# Altium schematic symbol library pulseox-main-SCHLib.SchLib: 23 symbols
Pins are listed as number, name and electrical type; pins without a type are passive.

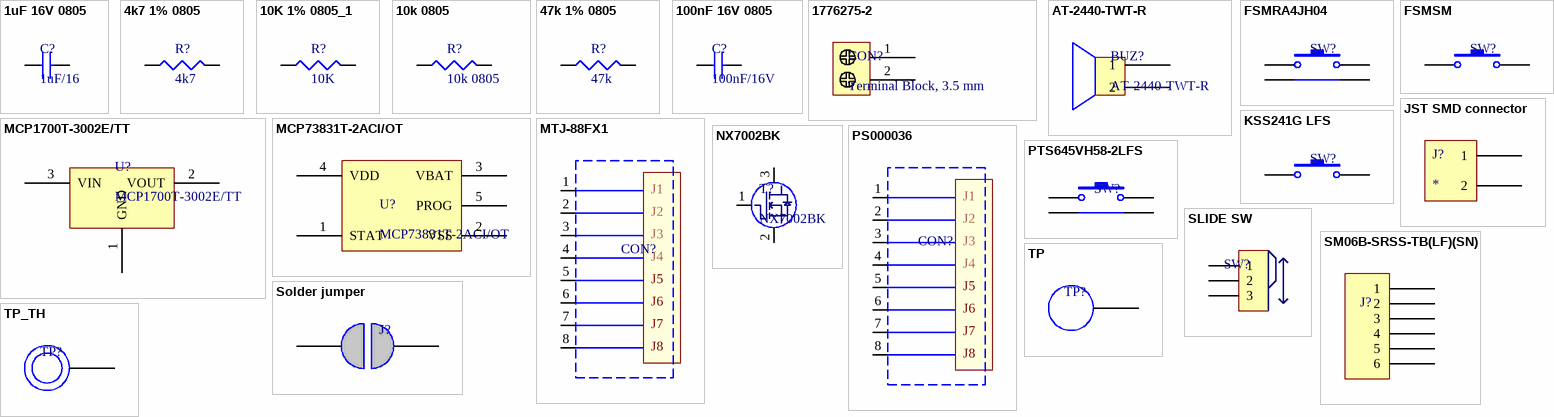
[diagram p0: symbols 1uF 16V 0805 to TP_TH]

## 1uF 16V 0805
designator C?, comment 1uF/16
MURATA - GRM21BR71C105KA01K - CAP, MLCC, X7R, 1UF, 16V, 0805; Ceramic Capacitor Case: 0805 [2012 Metric]; Capacitance: 1; Voltage Rating: 16; Capacitance Tolerance: ± 10%; Dielectric Characteristic: X7; Product Range: GRM Series; SVHC: No SVHC (20-Jun-2016; Supplier 1: Farnell; Manufacturer: MURATA; Manufacturer Part Number: GRM21BR71C105KA01K; RoHS: YES; Stock 1: 18829; Pricing 1: 10=0.0623, 100=0.0388, 500=0.0279, 2500=0.0221, 5000=0.0195, 10000=0.0162, 50000=0.0139, 100000=0.0126 (GBP); Packaging: Cut Tape; Operating Temperature Min: -55; Operating Temperature Max: 125; Automotive Qualification Standard: -; MSL: MSL 1 - Unlimited; ComponentLink1URL: http://www.farnell.com/datasheets/2189141.pdf; ComponentLink1Description: http://www.farnell.com/datasheets/2189141.pdf; Supplier Part Number 1: 2688536
footprint CAP0805
pins: 1, 2

## 4k7 1% 0805
designator R?, comment 4k7
VISHAY - CRCW08054K70FKEA - RES, THICK FILM, 4K7, 1%, 0.125W, 0805; Resistance: 4.7; Voltage Rating: 150; Resistor Case Style: 0805 [2012 Metric]; Power Rating: 125; Product Range: CRCW Series; Temperature Coefficient: ± 100; Automotive Qualification Standard: AEC-Q200; Resistor Mounting: Surface Mount Device<!--FANDB--><div class="features-and-benefits-container"><div class="features-and-benefits-description"><span class="features-benefits-value">The Vishay D/CRCW e3 series are standard thick film chip resistors. The resistance range includes E96 and E24 decade values from 1ohm to 10Mohm. CRCW e3 series resistors have a pure tin solder contacts on the Ni barrier layer that provides compatibility with reflow soldering process.</span></div><div class="features-and-benefits-list"><ul class="features-and-benefits-list-list"><li class="features-and-benefits-list-item">Automotive grade AEC-Q200 qualified</li><li class="features-and-benefits-list-item">EIA 0402, 0603, 0805, 1206, 1210, 1218, 2010, 2512 standard case sizes available</li><li class="features-and-benefits-list-item">Stability &Delta; Supplier 1: Farnell; Manufacturer: VISHAY; Manufacturer Part Number: CRCW08054K70FKEA; RoHS: Y-EX; Stock 1: 3035; Pricing 1: 10=0.0557, 100=0.0223, 500=0.0187, 1000=0.0086, 2500=0.0064 (GBP); Resistance Tolerance: ± 1%; Packaging: Cut Tape; Resistor Element Material: Thick Film; MSL: MSL 1 - Unlimited; ComponentLink1URL: http://www.vishay.com/docs/20014/smdpack.pdf; ComponentLink1Description: http://www.vishay.com/docs/20014/smdpack.pdf; ComponentLink2URL: http://www.farnell.com/datasheets/2310790.pdf; ComponentLink2Description: http://www.farnell.com/datasheets/2310790.pdf; ComponentLink3URL: http://www.farnell.com/cad/1552998.zip; ComponentLink3Description: http://www.farnell.com/cad/1552998.zip; Supplier Part Number 1: 1469923
footprint Block Terminal 3.5mm
pins: 1, 2

## 10K 1% 0805_1
designator R?, comment 10K
WALSIN - WR08X1002FTL - RES, THICK FILM, 10K, 1%, 150V, 0805; Resistance: 10; Voltage Rating: 150; Resistor Case Style: 0805 [2012 Metric]; Power Rating: 125; Product Range: WR08 Series; Temperature Coefficient: ± 100; Supplier 1: Farnell; Manufacturer: WALSIN; Manufacturer Part Number: WR08X1002FTL; RoHS: YES; Stock 1: 45511; Pricing 1: 10=0.0208, 100=0.0069, 500=0.0042, 1000=0.003, 2500=0.0023 (GBP); Resistance Tolerance: ± 1%; Packaging: Cut Tape; Resistor Element Material: Thick Film; Automotive Qualification Standard: -; MSL: MSL 2 - 1 year<!--FANDB--><div class="features-and-benefits-container"><div class="features-and-benefits-description"><span class="features-benefits-value">The WR08 series resistors from Walsin are thick film general purpose chip resistors. These resistors are constructed in a high grade ceramic body (aluminium oxide).</span></div><div class="features-and-benefits-list"><ul class="features-and-benefits-list-list"><li class="features-and-benefits-list-item">Resistance range includes E24 and E96 decade values from 1ohm to 10Mohm</li><li class="features-and-benefits-list-item">EIA 0805 case size</li><li class="features-and-benefits-list-item">Available in ?±100ppm/°C and -200ppm/°C to +400ppm/°C TCR values</li><li class="features-and-benefits-list-item">Available in ±1% and ±5% tolerance</li><li class="features-and-benefits-list-item">High reliability and stability</li><li class="features-and-benefits-list-item">Higher component and equipment reliability</li><li class="features-and-benefits-list-item">Lower assembly costs</li><li class="features-and-benefits-list-item">Continuous working voltage is 150V and rated power is 125; ComponentLink1URL: http://www.farnell.com/datasheets/1960319.pdf; ComponentLink1Description: http://www.farnell.com/datasheets/1960319.pdf; Supplier Part Number 1: 2502671
footprint RES0805
pins: 1, 2

## 10k 0805
designator R?
MULTICOMP         MCWR08X1002FTL            Surface Mount Chip Resistor, Thick Film, MCWR Series, 10 kohm, 125 mW,  1%, 150 V; Resistance: 10kR; Power Rating: 125mW; Voltage Rating: 150V; Temperature Coefficient: 100ppm/°C; Supplier 1: Farnell; Manufacturer: Multicomp; Manufacturer Part Number: MCWR08X1002FTL; Stock 1: 2925000; Pricing 1: 5000=0.0013, 25000=0.0011 (EUR); Mount: Surface Mount; Case/Package: 0805; Case Code (Metric): 2012; Case Code (Imperial): 0805; Tolerance: 1%; Packaging: Cut Tape; Composition: Thick Film; Voltage Rating (DC): 150V; REACH SVHC: Unknown; ComponentLink1URL: https://datasheet.ciiva.com/46381/1849611-46381605.pdf; ComponentLink1Description: https://datasheet.ciiva.com/46381/1849611-46381605.pdf; Supplier Part Number 1: 2446870
footprint RES0805
pins: 1, 2

## 47k 1% 0805
designator R?, comment 47k
WELWYN - WCR0805-47KFI - RES, THICK FILM, 47K, 1%, 0.125W, 0805; Resistance: 47; Voltage Rating: 150; Resistor Case Style: 0805 [2012 Metric]; Power Rating: 125; Product Range: WCR Series; Temperature Coefficient: ± 100; Automotive Qualification Standard: AEC-Q200; SVHC: No SVHC (15-Jun-2015); External Depth: 0.55; External Length / Height: 2; External Width: 1.25; Insulation Resistance: 1000; Proof Voltage: 500; Reel Quantity: 5000; Resistor Mounting: Surface Mount Device; Supplier 1: Farnell; Manufacturer: WELWYN; Manufacturer Part Number: WCR0805-47KFI; RoHS: YES; Stock 1: 26620; Pricing 1: 10=0.0208, 100=0.0156, 500=0.0115, 1000=0.01, 2500=0.0088 (GBP); Resistance Tolerance: ± 1%; Packaging: Cut Tape; Resistor Element Material: Thick Film; No. of Pins: 2; Operating Temperature Max: 155; Operating Temperature Min: -55; Operating Temperature Range: -55°C to +155; Tape Width: 8; ComponentLink1URL: http://www.farnell.com/datasheets/2331353.pdf; ComponentLink1Description: http://www.farnell.com/datasheets/2331353.pdf; Supplier Part Number 1: 1099812
footprint RES0805
pins: 1, 2

## 100nF 16V 0805
designator C?, comment 100nF/16V
MURATA - GRM219R71C104KA01D - CAP, MLCC, X7R, 0.1UF, 16V, 0805; Ceramic Capacitor Case: 0805 [2012 Metric]; Capacitance: 0.1; Voltage Rating: 16; Capacitance Tolerance: ± 10%; Dielectric Characteristic: X7; Product Range: GRM Series; SVHC: No SVHC (17-Dec-2015; Supplier 1: Farnell; Manufacturer: MURATA; Manufacturer Part Number: GRM219R71C104KA01D; RoHS: YES; Stock 1: 4286; Pricing 1: 10=0.0517, 100=0.0335, 500=0.0221, 1000=0.02, 2000=0.0175, 4000=0.0134, 20000=0.0095, 40000=0.0081 (GBP); Packaging: Cut Tape; Operating Temperature Min: -55; Operating Temperature Max: 125; Automotive Qualification Standard: -; MSL: MSL 1 - Unlimited; ComponentLink1URL: http://www.farnell.com/datasheets/2079178.pdf; ComponentLink1Description: http://www.farnell.com/datasheets/2079178.pdf; ComponentLink2URL: http://www.farnell.com/datasheets/1935878.pdf; ComponentLink2Description: http://www.farnell.com/datasheets/1935878.pdf; Supplier Part Number 1: 2611934
footprint CAP0805
pins: 1, 2

## 1776275-2
designator CON?, comment Terminal Block, 3.5 mm
TE CONNECTIVITY - 1776275-2 - TERMINAL BLOCK, WIRE TO BRD, 2POS, 18AWG; Pitch Spacing: 3.5; No. of Positions: 2; Wire Size AWG Min: 26; Wire Size AWG Max: 18; Conductor Area CSA: 0.9; Wire Connection Method: Screw; Rated Current: 7; Rated Voltage: 250; Block Orientation: Through Hole Right Angle; SVHC: No SVHC (15-Jun-2015); Approval Bodies: CSA, UL; Connector Mounting: PCB Mount; Connector Type: Terminal Block, PCB; Contact Current Rating: 10; Wire Area Size Max: 2.08mm²<!--FANDB--><div class="features-and-benefits-container"><div class="features-and-benefits-description"><span class="features-benefits-value">The 1776275-2 from TE Connectivity is a through hole, 2 position vertical PCB mount terminal block with interlocking. This terminal block comes with 3.5mm pitch spacing and is suitable for wire size ranging from 26AWG to 18; Supplier 1: Farnell; Manufacturer: TE CONNECTIVITY; Manufacturer Part Number: 1776275-2; RoHS: Y-EX; Stock 1: 22978; Pricing 1: 1=0.198, 50=0.148, 150=0.141, 250=0.135, 500=0.128, 1500=0.123 (GBP); Product Range: -; Colour: Blue; Contact Material: Brass; Contact Plating: Tin Plated Contacts; Lead Spacing: 3.5; Voltage Rating VAC: 250; ComponentLink1URL: http://www.farnell.com/datasheets/1899918.pdf; ComponentLink1Description: http://www.farnell.com/datasheets/1899918.pdf; ComponentLink2URL: http://www.farnell.com/cad/2291290.pdf; ComponentLink2Description: http://www.farnell.com/cad/2291290.pdf; ComponentLink3URL: http://www.farnell.com/datasheets/1650926.pdf; ComponentLink3Description: http://www.farnell.com/datasheets/1650926.pdf; ComponentLink4URL: http://www.farnell.com/datasheets/2159487.pdf; ComponentLink4Description: http://www.farnell.com/datasheets/2159487.pdf; Supplier Part Number 1: 1098611
footprint Block Terminal 3.5mm
pins: 1 (oc), 2 (oc)

## AT-2440-TWT-R
designator BUZ?
AUDIO PIEZO TRANSDUCER 1-30V TH; Manufacturer: PUI Audio, Inc.; Driver Circuitry: Transducer, Externally Driven; Input Type: Peak-Peak Signal; Voltage - Rated: 3V; Voltage Range: 1 ~ 30V; Frequency: 4kHz; Operating Mode: Single Tone; Sound Pressure Level (SPL): 80dB @ 3V, 10cm; Current - Supply: 1mA; Port Location: Top; Ratings: Washable; Supplier 1: Digi-Key; Manufacturer Part Number: AT-2440-TWT-R; RoHS: RoHS Compliant; Category: Audio Products; Stock 1: 3028; Pricing 1: 1=1.87, 10=1.7, 100=1.36, 500=1.1288, 1000=0.986, 5000=0.884 (USD); Packaging: Tray; Part Status: Active; Technology: Piezo; Duration: -; Operating Temperature: -20°C ~ 60°C; Approvals: -; Mounting Type: Through Hole; Termination: PC Pins; Size / Dimension: 0.945" Dia (24.00mm); Height - Seated (Max): 0.303" (7.70mm); ComponentLink1URL: http://www.puiaudio.com/pdf/AT-2440-TWT-R.pdf; ComponentLink1Description: http://www.puiaudio.com/pdf/AT-2440-TWT-R.pdf; Supplier Part Number 1: 668-1103-ND
footprint Buzzer
pins: 1 (oc), 2 (oc)

## FSMRA4JH04
designator SW?  (value not drawn)
TE CONNECTIVITY         FSMRA4JH04             Tactile Switch, Non Illuminated, 1.57 N, 24 V, 50 mA, Solder, FSMRAJ Series; Mechanical Life: 100000Cycles; Voltage Rating (DC): 24V; Operating Force: 1.6N; Current Rating: 50mA; Throw Configuration: SPST; Actuator Length: 5.74mm; Supplier 1: Farnell; Manufacturer: TE Connectivity; Manufacturer Part Number: FSMRA4JH04; Stock 1: 19101; Pricing 1: 1=0.15, 500=0.142, 1000=0.117, 5000=0.115, 10000=0.112 (EUR); Mount: Through Hole,PCB; Contact Material: Copper Alloy; Min Operating Temperature: -35°C; Max Operating Temperature: 85°C; Package Quantity: 1000; Packaging: Bulk; Termination: Solder; Voltage Rating: 24V; Illumination Type: Illuminated; Contact Current Rating: 50mA; Length: 7.11mm; Width: 7.01mm; REACH SVHC: Unknown; ComponentLink1URL: https://datasheet.ciiva.com/5809/606398-5809313.pdf; ComponentLink1Description: https://datasheet.ciiva.com/5809/606398-5809313.pdf; ComponentLink2URL: https://datasheet.ciiva.com/7635/606398-7635446.pdf; ComponentLink2Description: https://datasheet.ciiva.com/7635/606398-7635446.pdf; Supplier Part Number 1: 1813692
footprint SW TH ANGLE_1
pins: 1, 2, 3 (oc), 4 (oc)

## FSMSM
designator SW?  (value not drawn)
TE CONNECTIVITY / ALCOSWITCH - FSMSM - SWITCH, SPST, 0.05A, 24VDC, SMD; Illumination: Non Illuminated; Contact Voltage DC Nom: 24; Contact Current Max: 50; Operating Force: 180; Product Range: FSMSM Series; Actuation Type: Raised; Contact Configuration: SPST<!--FANDB--><div class="features-and-benefits-container"><div class="features-and-benefits-description"><span class="features-benefits-value">The FSMSM is a single-pole single-throw 4.5; Supplier 1: Farnell; Manufacturer: TE CONNECTIVITY / ALCOSWITCH; Manufacturer Part Number: FSMSM; RoHS: YES; Stock 1: 14353; Pricing 1: 1=0.157, 75=0.148, 150=0.144, 250=0.139, 500=0.102, 1500=0.1, 2500=0.0979, 5000=0.0959 (GBP); Switch Terminals: -; ComponentLink1URL: http://www.farnell.com/datasheets/1845752.pdf; ComponentLink1Description: http://www.farnell.com/datasheets/1845752.pdf; ComponentLink2URL: http://www.farnell.com/cad/1885096.pdf; ComponentLink2Description: http://www.farnell.com/cad/1885096.pdf; ComponentLink3URL: http://www.farnell.com/datasheets/1754085.pdf; ComponentLink3Description: http://www.farnell.com/datasheets/1754085.pdf; Supplier Part Number 1: 1703878
footprint FSMSM SMD SW
pins: 1, 2

## JST SMD connector
designator J?  (no BOM)
footprint JST SMD connector
pins: 1 (oc), 2 (oc)

## KSS241G LFS
designator SW?  (value not drawn)
C & K COMPONENTS - KSS241G LFS - SWITCH, SPST, SMD, 4N, 0.05A, 32VDC; Illumination: Non Illuminated; Contact Voltage DC Nom: 32; Contact Current Max: 50; Operating Force: 4; Switch Terminals: Solder; SVHC: No SVHC (17-Dec-2015); Actuation Type: Side; Contact Configuration: SPST-NO<!--FANDB--><div class="features-and-benefits-container"><div class="features-and-benefits-description"><span class="features-benefits-value">The KSS241GLFS is a subminiature SMD Tactile Switch with momentary action and SPST-NO contact arrangement. The silver-plated gull-wing terminations.</span></div><div class="features-and-benefits-list"><ul class="features-and-benefits-list-list"><li class="features-and-benefits-list-item">Side actuated</li><li class="features-and-benefits-list-item">Low profile of 1.7mm</li><li class="features-and-benefits-list-item">Excellent tactile feel</li><li class="features-and-benefits-list-item">IP40 Protection rating</li><li class="features-and-benefits-list-item">Large flat top</li><li class="features-and-benefits-list-item">-40 to 85; Supplier 1: Farnell; Manufacturer: C & K COMPONENTS; Manufacturer Part Number: KSS241G LFS; RoHS: YES; Stock 1: 5476; Pricing 1: 1=0.469, 75=0.451, 150=0.266, 250=0.26, 500=0.254, 1500=0.248, 2500=0.242, 5000=0.236 (GBP); Product Range: -; ComponentLink1URL: http://www.farnell.com/datasheets/1792624.pdf; ComponentLink1Description: http://www.farnell.com/datasheets/1792624.pdf; Supplier Part Number 1: 1437640
footprint KSS241G_switch (KSS241G SMT Side Actuated Switch)
pins: 1, 2

## MCP1700T-3002E/TT
designator U?
MICROCHIP - MCP1700T-3002E/TT - IC, LDO REGULATOR, 0.25A, 6V, SOT23-3; Supplier 1: Farnell; Manufacturer: MICROCHIP; Manufacturer Part Number: MCP1700T-3002E/TT; RoHS: YES; Stock 1: 35318; Pricing 1: 1=0.323, 10=0.296, 25=0.272, 50=0.247, 100=0.224 (GBP); ComponentLink1URL: http://www.farnell.com/datasheets/1784514.pdf; ComponentLink1Description: http://www.farnell.com/datasheets/1784514.pdf; ComponentLink2URL: http://www.farnell.com/cad/1545350.zip; ComponentLink2Description: http://www.farnell.com/cad/1545350.zip; ComponentLink3URL: http://www.farnell.com/datasheets/2289014.pdf; ComponentLink3Description: http://www.farnell.com/datasheets/2289014.pdf; Supplier Part Number 1: 1331482
footprint SOT23127P600-8N - duplicate
pins: 1 GND (oc), 2 VOUT (oc), 3 VIN (oc)

## MCP73831T-2ACI/OT
designator U?
MICROCHIP - MCP73831T-2ACI/OT - LI-ION/LI-POLY CHARGE CONTROLLER; Supplier 1: Farnell; Manufacturer: MICROCHIP; Manufacturer Part Number: MCP73831T-2ACI/OT; RoHS: YES; Stock 1: 39052; Pricing 1: 1=0.476, 10=0.407, 25=0.385, 50=0.361, 100=0.336 (GBP); ComponentLink1URL: http://www.farnell.com/datasheets/2124927.pdf; ComponentLink1Description: http://www.farnell.com/datasheets/2124927.pdf; ComponentLink2URL: http://www.farnell.com/cad/1545964.zip; ComponentLink2Description: http://www.farnell.com/cad/1545964.zip; Supplier Part Number 1: 1332158
footprint SOT23127P600-8N
pins: 1 STAT (oc), 2 VSS (oc), 3 VBAT (oc), 4 VDD (oc), 5 PROG (oc)

## MTJ-88FX1
designator CON?  (value not drawn)
MULTICOMP   MTJ-88FX1   CAT5/CAT5E RJ45 MODULAR JACK 8 POSITION 1 PORT; Number of Contacts: 8; Number of Ports: 1; Gender: Male; Supplier 1: Farnell; Manufacturer: Multicomp; Manufacturer Part Number: MTJ-88FX1; Stock 1: 0; Pricing 1: 1=0.48, 250=0.362, 500=0.324, 1000=0.29, 5000=0.264 (GBP); Mount: Through Hole; Contact Plating: Gold; Contact Material: Bronze; Termination: Through Hole; Connector Type: RJ45; REACH SVHC: Unknown; ComponentLink1URL: https://datasheet.ciiva.com/7629/1647955-7629275.pdf; ComponentLink1Description: https://datasheet.ciiva.com/7629/1647955-7629275.pdf; Supplier Part Number 1: 1626746
footprint eth con
pins: 1, 2, 3, 4, 5, 6, 7, 8
text: J1; J2; J3; J4; J5; J6; J7; J8

## NX7002BK
designator T?
NEXPERIA - NX7002BK - MOSFET, N-CH, 60V, 0.27A, SOT-23-3; Transistor Polarity: N Channel; Continuous Drain Current Id: 270; Drain Source Voltage Vds: 60; On Resistance Rds(on): 2.2; Rds(on) Test Voltage Vgs: 10; Threshold Voltage Vgs: 1.6; Power Dissipation Pd: 310; Transistor Case Style: SOT-23; No. of Pins: 3; SVHC: No SVHC (17-Dec-2015; Supplier 1: Farnell; Manufacturer: NEXPERIA; Manufacturer Part Number: NX7002BK; RoHS: YES; Stock 1: 2195; Pricing 1: 1=0.0468, 25=0.0379, 100=0.0268, 250=0.0233, 500=0.0212, 1000=0.0189 (GBP); Operating Temperature Max: 150; Product Range: -; Automotive Qualification Standard: -; MSL: MSL 1 - Unlimited; ComponentLink1URL: http://www.farnell.com/datasheets/1970559.pdf; ComponentLink1Description: http://www.farnell.com/datasheets/1970559.pdf; Supplier Part Number 1: 2469640
footprint SOT23
pins: 1 G, 2 S, 3 D

## PS000036
designator CON?  (value not drawn)
Manufacturer: Pro Signal; Manufacturer Part Number: PS000036; Supplier 1: Farnell; Stock 1: 0; Supplier Part Number 1: 2787075
footprint eth con
pins: 1, 2, 3, 4, 5, 6, 7, 8
text: J1; J2; J3; J4; J5; J6; J7; J8

## PTS645VH58-2LFS
designator SW?  (value not drawn)
SWITCH TACTILE SPST-NO 0.05A 12V; Manufacturer: ITT C&K; Manufacturer Part Number: PTS645VH58-2LFS; Mechanical Life: 100000Cycles; Actuator Material: Nylon,Polyamide; Operating Force: 200gf; Throw Configuration: SPST; Max Current Rating: 50mA; Illumination Type: Non-Illuminated,Illuminated; Switch Function: Off-Mom; Supplier 1: Farnell; Stock 1: 7080; Pricing 1: 1=0.189, 10=0.175, 50=0.165, 100=0.141, 300=0.135, 700=0.107, 2000=0.105, 7000=0.103 (GBP); Mount: Through Hole; Contact Plating: Silver; Colour: Black; Contact Material: Brass,Silver; Min Operating Temperature: -20°C; Max Operating Temperature: 60°C; Package Quantity: 1000; Packaging: Bulk; Current Rating: 50mA; Voltage Rating (DC): 12V; Termination: PC Pins; Orientation: Right Angle; Length: 8.5mm; Depth: 9.8mm; REACH SVHC: No SVHC; Lead Free: Lead Free; ComponentLink1URL: https://datasheet.ciiva.com/29903/getdatasheetpartid-780336-29903805.pdf; ComponentLink1Description: https://datasheet.ciiva.com/29903/getdatasheetpartid-780336-29903805.pdf; ComponentLink2URL: https://datasheet.ciiva.com/22637/1707731-22637360.pdf; ComponentLink2Description: https://datasheet.ciiva.com/22637/1707731-22637360.pdf; Supplier Part Number 1: 2320088
footprint SW TH ANGLE_2
pins: 1, 2, 3 (oc), 4 (oc)

## SLIDE SW
designator SW?  (value not drawn)
C & K COMPONENTS - OS102011MA1QS1 - SWITCH SLIDE SHORTING SPDT; Switch Operation: On-On; Switch Mounting: Through Hole; Contact Current Max: 100; Contact Voltage DC Max: 12; SVHC: No SVHC (20-Jun-2016)<!--FANDB--><div class="features-and-benefits-container"><div class="features-and-benefits-description"><span class="features-benefits-value">The OS102011MA1QS1 is a Miniature Slide Switch features a new high-temperature option for lead-free soldering. Designed with a variety of actuators and terminations, the miniature slide switches are ideal for thermostat applications, as well as test and measurement equipment, computer peripherals and consumer products.</span></div><div class="features-and-benefits-list"><ul class="features-and-benefits-list-list"><li class="features-and-benefits-list-item">SPDT Contact Configuration</li><li class="features-and-benefits-list-item">Variety of Actuators and Terminations</li><li class="features-and-benefits-list-item">PC and Panel Mounting</li><li class="features-and-benefits-list-item">Silver Contact Plating</li><li class="features-and-benefits-list-item">Shorting Contacts</li><li class="features-and-benefits-list-item">Halogen-free Material</li></ul></div><div class="features-and-benefits-applications"><ul class="features-and-benefits-value"><li class="features-and-benefits-list-item">Test & Measurement</li><li class="features-and-benefits-list-item">Computers & Computer Peripherals</li><li class="features-and-benefits-list-item">Communications & Networking</li><li class="features-and-benefits-list-item">Consumer Electronics</li></ul></div></div>; Supplier 1: Farnell; Manufacturer: C & K COMPONENTS; Manufacturer Part Number: OS102011MA1QS1; RoHS: YES; Stock 1: 1781; Pricing 1: 1=0.3, 75=0.251, 150=0.244, 250=0.2, 500=0.196, 1500=0.192, 2500=0.188, 5000=0.184 (GBP); Contact Configuration: SPDT; Product Range: -; Contact Voltage AC Max: -; Orientation: Right Angle; ComponentLink1URL: http://www.farnell.com/datasheets/1839844.pdf; ComponentLink1Description: http://www.farnell.com/datasheets/1839844.pdf; Supplier Part Number 1: 2435103
footprint SLIDE_SW
pins: 1 (oc), 2 (oc), 3 (oc)

## SM06B-SRSS-TB(LF)(SN)
designator J?  (value not drawn)
JST (JAPAN SOLDERLESS TERMINALS) - SM06B-SRSS-TB(LF)(SN) - CONNECTOR, HEADER, SMT, R/A, 1MM, 6WAY; Pitch Spacing: 1; No. of Contacts: 6; Product Range: SR Series; Contact Termination Type: Surface Mount; SVHC: No SVHC (17-Dec-2015); Contact Resistance: 20; Contact Termination: Surface Mount Right Angle; Insulation Resistance: 100; Voltage Rating V AC: 50; Withstand Voltage: 500V<!--FANDB--><div class="features-and-benefits-container"><div class="features-and-benefits-description"><span class="features-benefits-value">The SR series side entry, surface mount shrouded header from JST are 1mm pitch, single row wire to board disconnect insulation displacement connectors. This shrouded header has locking features for its mating receptacle and there are no holes in the header shroud that would adversely effect vacuum gripping equipment. The insulation displacement section connected to each wire consists of two tin-plated slots which ensures reliable connection. SR series shrouded headers are compatible with SH crimp style connector.</span></div><div class="features-and-benefits-list"><ul class="features-and-benefits-list-list"><li class="features-and-benefits-list-item">Current rating of 700mA</li><li class="features-and-benefits-list-item">Voltage rating of 50VAC/DC</li><li class="features-and-benefits-list-item">Temperature range from -25°C to 85°C</li><li class="features-and-benefits-list-item">Wire size of 30AWG</li><li class="features-and-benefits-list-item">Number of contacts varies from 2 to 14 pins</li><li class="features-and-benefits-list-item">Contact material is copper alloy</li><li class="features-and-benefits-list-item">Tin plated contact</li><li class="features-and-benefits-list-item">UL and CSA certified</li></ul></div><div class="features-and-benefits-applications"><ul class="features-and-benefits-value"><li class="features-and-benefits-list-item">Industrial</li></ul></div></div>; Supplier 1: Farnell; Manufacturer: JST (JAPAN SOLDERLESS TERMINALS); Manufacturer Part Number: SM06B-SRSS-TB(LF)(SN); RoHS: YES; Stock 1: 16619; Pricing 1: 10=0.607, 50=0.465, 150=0.421, 250=0.378, 500=0.334, 1500=0.305, 2500=0.276, 5000=0.245 (GBP); Gender: Header; No. of Rows: 1; Contact Plating: Tin Plated Contacts; Contact Material: Copper; Colour: Natural; Current Rating: 1; Flammability Rating: UL94V-0; Lead Spacing: 1; Material: Polyamide; Operating Temperature Max: 85; Operating Temperature Min: -25; Packaging: Cut Tape; Termination Method: Crimp; ComponentLink1URL: http://www.farnell.com/datasheets/2082363.pdf; ComponentLink1Description: http://www.farnell.com/datasheets/2082363.pdf; Supplier Part Number 1: 1679122
footprint JST 6 pin SMD
pins: 1 (oc), 2 (oc), 3 (oc), 4 (oc), 5 (oc), 6 (oc)

## Solder jumper
designator J?  (value not drawn)  (no BOM)
footprint solder jumper smd
pins: 1 (oc), 2 (oc)

## TP
designator TP?  (value not drawn)  (no BOM)
footprint TP
pins: 1 (oc)

## TP_TH
designator TP?  (value not drawn)  (no BOM)
footprint TP_TH
pins: 1 (oc)